# EAGLE library part MAX485 (library rev1_lbr)
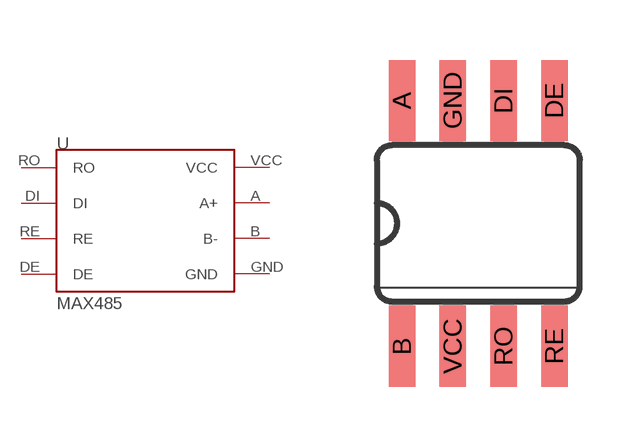
[diagram p2: symbol with the pads of MAX485; footprint MAX485]

Designator prefix -

## MAX485  [MAX485]
A  A+
B  B-
DE  DE
DI  DI
GND  GND
RE  RE
RO  RO
VCC  VCC

## Footprint MAX485 (pad centres in mm)
Small Outline package 8 150 mil
smd 0.66 x 2.032: A -1.905,3.073; B -1.905,-3.073; DE 1.905,3.073; DI 0.635,3.073; GND -0.635,3.073; RE 1.905,-3.073; RO 0.635,-3.073; VCC -0.635,-3.073